# Altium footprint library TRANS_RF.PcbLib: 11 footprints
Each footprint in its own frame and in the unit in brackets; x right, y up, seen from the top. Pads: shape width x height; smd on the part's side, far side on the other; paste and mask are expansions set on the pad; w line width, h text height; cw(c..) or ccw(c..) is an arc to the next point about the centre after c.
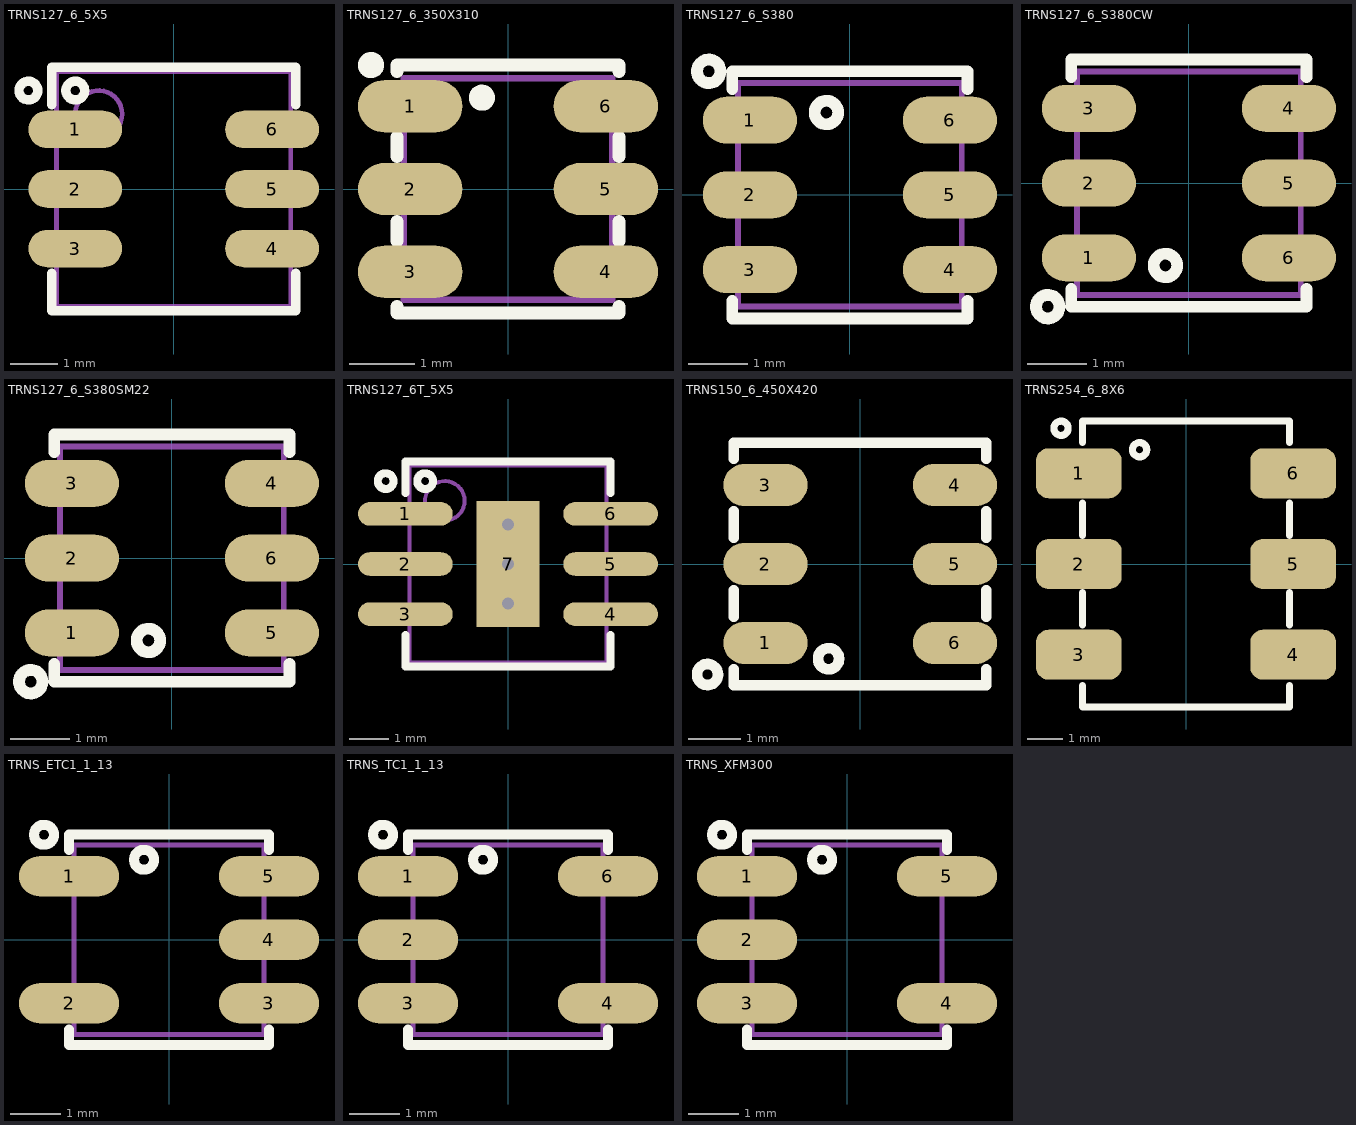
[diagram p0: the footprints below, top view; thin cyan lines are the x and y axes]

## TRNS127_6_5X5 [mm] "Transformer, AT577, 6-Leads, Body 5x5mm, Pitch 1.27mm"
height 1.8
pads (6):
  oval 2x0.8 smd mask+0.1: 1(-2.1,1.27) 2(-2.1,0) 3(-2.1,-1.27) 4(2.1,-1.27) 5(2.1,0) 6(2.1,1.27)
Top Overlay:
  circle w0.2: c-3.1,2.1 r0.2
  circle w0.2: c-2.1,2.1 r0.2
  lines w0.2: -2.6,-1.8 -2.6,-2.6 2.6,-2.6 2.6,-1.8 ; -2.6,1.8 -2.6,2.6 2.6,2.6 2.6,1.8
Mechanical 13:
  circle w0.1: c-1.6,1.6 r0.5
  lines w0.1: -2.5,-2.5 2.5,-2.5 2.5,2.5 -2.5,2.5 -2.5,-2.5
3D body: height 1.8, standoff 0.5, extent -2.5,-2.5 2.5,2.5

## TRNS127_6_350X310 [mm] "Transformer, SFECF MURATA CERAFIL pitch: 1.28mm 3.5x3.1mm 6Lead"
height 1.4
pads (6):
  oval 1.6x0.8 smd: 1(-1.5,1.27) 2(-1.5,0) 3(-1.5,-1.27) 4(1.5,-1.27) 5(1.5,0) 6(1.5,1.27)
Top Overlay:
  circle w0.2: c-0.4,1.4 r0.1
  circle w0.2: c-2.1,1.9 r0.1
  lines w0.2: -1.7,-1.8 -1.7,-1.9 1.7,-1.9 1.7,-1.8 ; -1.7,-0.8 -1.7,-0.5 ; -1.7,0.5 -1.7,0.8 ; -1.7,1.8 -1.7,1.9 1.7,1.9 1.7,1.8 ; 1.7,-0.8 1.7,-0.5 ; 1.7,0.5 1.7,0.8
Mechanical 13:
  lines w0.1: -1.6,-1.7 1.6,-1.7 1.6,1.7 -1.6,1.7 -1.6,-1.7
3D body "User Library-SFECF10M7EA00S0-R0.step": height 1.32, standoff 0, extent -1.57,-1.725 1.57,1.725

## TRNS127_6_S380 [mm] "Transformer, SAW Bandpass Filter F8973, pitch:1.27 3.8X3.8mm"
height 1.4
pads (6):
  oval 1.6x0.8 smd: 1(-1.7,1.27) 2(-1.7,0) 3(-1.7,-1.27) 4(1.7,-1.27) 5(1.7,0) 6(1.7,1.27)
Top Overlay:
  circle w0.2: c-2.4,2.1 r0.2
  circle w0.2: c-0.4,1.4 r0.2
  lines w0.2: -2,-1.8 -2,-2.1 2,-2.1 2,-1.8 ; -2,1.8 -2,2.1 2,2.1 2,1.8
Mechanical 13:
  lines w0.1: -1.9,-1.9 -1.9,1.9 1.9,1.9 1.9,-1.9 -1.9,-1.9
3D body: height 1.4, standoff 0, extent -1.9,-1.9 1.9,1.9

## TRNS127_6_S380CW [mm] "Transformer, 4X3.8mm, 1.27mm pitch, Clockwise numbering"
height 2.7
pads (6):
  oval 1.6x0.8 smd: 1(-1.7,-1.27) 2(-1.7,0) 3(-1.7,1.27) 4(1.7,1.27) 5(1.7,0) 6(1.7,-1.27)
Top Overlay:
  circle w0.2: c-0.4,-1.4 r0.2
  circle w0.2: c-2.4,-2.1 r0.2
  lines w0.2: -2,-1.8 -2,-2.1 2,-2.1 2,-1.8 ; -2,1.8 -2,2.1 2,2.1 2,1.8
Mechanical 13:
  lines w0.1: -1.9,-1.9 1.9,-1.9 1.9,1.9 -1.9,1.9 -1.9,-1.9
3D body "User Library-etc1-1-13.step": height 2.6, standoff 0, extent -2.413,-1.9 2.413,1.91

## TRNS127_6_S380SM22 [mm] "Transformer, sm-22, AT224"
height 2.7
pads (6):
  oval 1.6x0.8 smd: 1(-1.7,-1.27) 2(-1.7,0) 3(-1.7,1.27) 4(1.7,1.27) 5(1.7,-1.27) 6(1.7,0)
Top Overlay:
  circle w0.2: c-0.4,-1.4 r0.2
  circle w0.2: c-2.4,-2.1 r0.2
  lines w0.2: -2,-1.8 -2,-2.1 2,-2.1 2,-1.8 ; -2,1.8 -2,2.1 2,2.1 2,1.8
Mechanical 13:
  lines w0.1: -1.9,-1.9 1.9,-1.9 1.9,1.9 -1.9,1.9 -1.9,-1.9
3D body "User Library-etc1-1-13.step": height 2.6, standoff 0, extent -2.413,-1.9 2.413,1.91

## TRNS127_6T_5X5 [mm] "Transformer, SM31, 6-Leads, Body 5x5mm, Pitch 1.27mm"
height 1.8
pads (7):
  oval 2.4x0.6 smd: 1(-2.6,1.27) 2(-2.6,0) 3(-2.6,-1.27) 4(2.6,-1.27) 5(2.6,0) 6(2.6,1.27)
  rect 1.6x3.2 smd: 7(0,0)
via 0,0 diameter 0.5 hole 0.3
via 0,1 diameter 0.5 hole 0.3
via 0,-1 diameter 0.5 hole 0.3
Top Overlay:
  circle w0.2: c-2.1,2.1 r0.2
  circle w0.2: c-3.1,2.1 r0.2
  lines w0.2: -2.6,-1.8 -2.6,-2.6 2.6,-2.6 2.6,-1.8 ; -2.6,1.8 -2.6,2.6 2.6,2.6 2.6,1.8
Mechanical 13:
  circle w0.1: c-1.6,1.6 r0.5
  lines w0.1: -2.5,-2.5 -2.5,2.5 2.5,2.5 2.5,-2.5 -2.5,-2.5
3D body: height 1.8, standoff 0.5, extent -2.5,-2.5 2.5,2.5

## TRNS150_6_450X420 [mm] "Transformer, WBC, pitch:1.5mm, 4.5X4.2mm"
height 3
pads (6):
  oval 1.6x0.8 smd: 1(-1.8,-1.5) 2(-1.8,0) 3(-1.8,1.5) 4(1.8,1.5) 5(1.8,0) 6(1.8,-1.5)
Top Overlay:
  circle w0.2: c-2.9,-2.1 r0.2
  circle w0.2: c-0.6,-1.8 r0.2
  lines w0.2: -2.4,-2 -2.4,-2.3 2.4,-2.3 2.4,-2 ; -2.4,-1 -2.4,-0.5 ; -2.4,0.5 -2.4,1 ; -2.4,2 -2.4,2.3 2.4,2.3 2.4,2 ; 2.4,-1 2.4,-0.5 ; 2.4,0.5 2.4,1
3D body "User Library-WBC_Trans.STEP": height 3.01, standoff 0, extent -2.225,-2.1 2.225,2.1

## TRNS254_6_8X6 [mm] "Transformer, ADT1-1WT, 7.9X5.6X2.8mm"
pads (6):
  rrect50% 2.4x1.4 smd: 1(-3,2.54) 2(-3,0) 3(-3,-2.54) 4(3,-2.54) 5(3,0) 6(3,2.54)
Top Overlay:
  circle w0.2: c-1.3,3.2 r0.2
  circle w0.2: c-3.5,3.8 r0.2
  lines w0.2: -2.9,-3.4 -2.9,-4 2.9,-4 2.9,-3.4 ; -2.9,-1.7 -2.9,-0.8 ; -2.9,0.8 -2.9,1.7 ; -2.9,3.4 -2.9,4 2.9,4 2.9,3.4 ; 2.9,-1.7 2.9,-0.8 ; 2.9,0.8 2.9,1.7
3D body "User Library-CD542.step": height 2.85, standoff 0, extent -3.455,-3.935 3.455,3.935

## TRNS_ETC1_1_13 [mm] "Transformer, 5pin ETC1-1-13 3.8x3.8mm pitch: 1.27mm"
height 3
pads (5):
  oval 2x0.8 smd: 1(-2,1.27) 2(-2,-1.27) 3(2,-1.27) 4(2,0) 5(2,1.27)
Top Overlay:
  circle w0.2: c-0.5,1.6 r0.2
  circle w0.2: c-2.5,2.1 r0.2
  lines w0.2: -2,-1.8 -2,-2.1 2,-2.1 2,-1.8 ; -2,1.8 -2,2.1 2,2.1 2,1.8
Mechanical 13:
  lines w0.1: -1.9,-1.9 1.9,-1.9 1.9,1.9 -1.9,1.9 -1.9,-1.9
3D body "User Library-etc1-1-13.step": height 2.6, standoff 0, extent -2.413,-1.9 2.413,1.91

## TRNS_TC1_1_13 [mm] "Transformer, 5pin TC1-1-13M+ 3.8x3.8mm pitch: 1.27mm"
height 3
pads (5):
  oval 2x0.8 smd: 1(-2,1.27) 2(-2,0) 3(-2,-1.27) 4(2,-1.27) 6(2,1.27)
Top Overlay:
  circle w0.2: c-2.5,2.1 r0.2
  circle w0.2: c-0.5,1.6 r0.2
  lines w0.2: -2,-1.8 -2,-2.1 2,-2.1 2,-1.8 ; -2,1.8 -2,2.1 2,2.1 2,1.8
Mechanical 13:
  lines w0.1: -1.9,-1.9 -1.9,1.9 1.9,1.9 1.9,-1.9 -1.9,-1.9
3D body "User Library-etc1-1-13.step": height 2.6, standoff 0, extent -2.413,-1.9 2.413,1.91

## TRNS_XFM300 [mm] "Transformer, 5pin XFM3001-1UH 3.8x3.8mm pitch: 1.27mm"
height 3
pads (5):
  oval 2x0.8 smd: 1(-2,1.27) 2(-2,0) 3(-2,-1.27) 4(2,-1.27) 5(2,1.27)
Top Overlay:
  circle w0.2: c-2.5,2.1 r0.2
  circle w0.2: c-0.5,1.6 r0.2
  lines w0.2: -2,-1.8 -2,-2.1 2,-2.1 2,-1.8 ; -2,1.8 -2,2.1 2,2.1 2,1.8
Mechanical 13:
  lines w0.1: -1.9,-1.9 -1.9,1.9 1.9,1.9 1.9,-1.9 -1.9,-1.9
3D body "User Library-etc1-1-13.step": height 2.6, standoff 0, extent -2.413,-1.91 2.413,1.9